# EAGLE library part 8P8C (library balto)
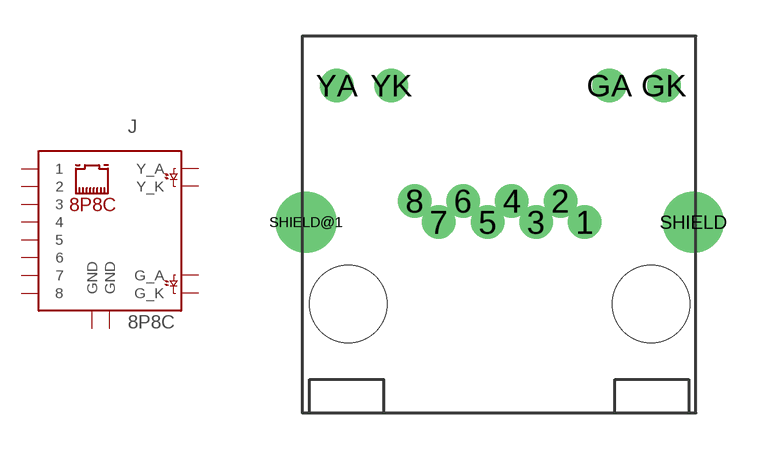
[diagram p10: symbol with the pads of 8P8C; footprint 8P8C]

Designator prefix J

## 8P8C  [8P8C]
1  1
2  2
3  3
4  4
5  5
6  6
7  7
8  8
GA  G_A
GK  G_K
SHIELD  GND
SHIELD@1  GND
YA  Y_A
YK  Y_K

## Footprint 8P8C (pad centres in mm)
drill 0.9 pad 1.1: 1 9.89,3.419; 2 8.87,4.309; 3 7.85,3.419; 4 6.83,4.309; 5 5.81,3.419; 6 4.79,4.309; 7 3.77,3.419; 8 2.75,4.309; GA 10.92,9.14; GK 13.21,9.14; YA -0.51,9.14; YK 1.78,9.14
drill 1.7: SHIELD 14.44,3.419; SHIELD@1 -1.8,3.419
hole 3.25 at 12.67,-0.011
hole 3.25 at -0.03,-0.011